# EAGLE library part S06P (library con-amp-mt)
AMP MT CONNECTOR
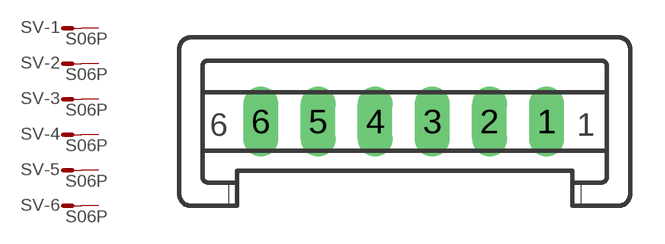
[diagram p15: symbol with the pads of S06P; footprint S06P]

Designator prefix SV; gates -1=M -2=M -3=M -4=M -5=M -6=M

## S06P  [S06P]
1  -1:S  pas
2  -2:S  pas
3  -3:S  pas
4  -4:S  pas
5  -5:S  pas
6  -6:S  pas

## Footprint S06P (pad centres in mm)
AMP MT CONNECTOR
drill 1.016 long: 1 6.25,0; 2 3.75,0; 3 1.25,0; 4 -1.25,0; 5 -3.75,0; 6 -6.25,0